# EAGLE library part PIC24FJ128GA202 (library JK-microcontrollers)
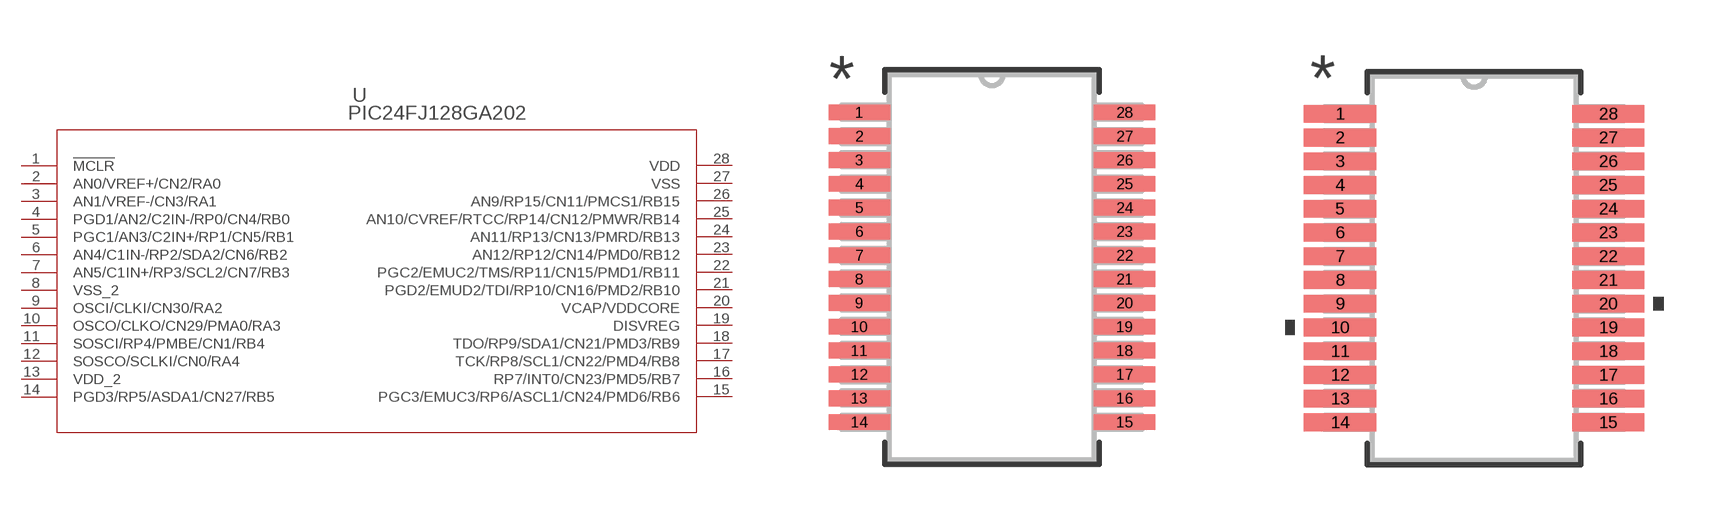
[diagram p1: symbol with the pads of SSOP28_MC; footprints SSOP28_MC, SSOP28_MC-M]

Designator prefix -

## PIC24FJ128GA202 (GENERATOR: Jake Kapala; MANUFACTURER: Microchip; PACKAGE: SSOP; PINS: 28)  [SSOP28_MC]
1  !MCLR  pas
2  AN0/VREF+/CN2/RA0  pas
3  AN1/VREF-/CN3/RA1  pas
4  PGD1/AN2/C2IN-/RP0/CN4/RB0  pas
5  PGC1/AN3/C2IN+/RP1/CN5/RB1  pas
6  AN4/C1IN-/RP2/SDA2/CN6/RB2  pas
7  AN5/C1IN+/RP3/SCL2/CN7/RB3  pas
8  VSS_2  pas
9  OSCI/CLKI/CN30/RA2  pas
10  OSCO/CLKO/CN29/PMA0/RA3  pas
11  SOSCI/RP4/PMBE/CN1/RB4  pas
12  SOSCO/SCLKI/CN0/RA4  pas
13  VDD_2  pas
14  PGD3/RP5/ASDA1/CN27/RB5  pas
15  PGC3/EMUC3/RP6/ASCL1/CN24/PMD6/RB6  pas
16  RP7/INT0/CN23/PMD5/RB7  pas
17  TCK/RP8/SCL1/CN22/PMD4/RB8  pas
18  TDO/RP9/SDA1/CN21/PMD3/RB9  pas
19  DISVREG  pas
20  VCAP/VDDCORE  pas
21  PGD2/EMUD2/TDI/RP10/CN16/PMD2/RB10  pas
22  PGC2/EMUC2/TMS/RP11/CN15/PMD1/RB11  pas
23  AN12/RP12/CN14/PMD0/RB12  pas
24  AN11/RP13/CN13/PMRD/RB13  pas
25  AN10/CVREF/RTCC/RP14/CN12/PMWR/RB14  pas
26  AN9/RP15/CN11/PMCS1/RB15  pas
27  VSS  pas
28  VDD  pas

## PIC24FJ128GA202SSOP28_MC-M  [SSOP28_MC-M]
Pads as for SSOP28_MC

## PIC24FJ128GA202SSOP28_MC-L  [SSOP28_MC-L]
Pads as for SSOP28_MC

## PIC24FJ128GA202QFN-S (GENERATOR: Jake Kapala; MANUFACTURER: Microchip; PACKAGE: QFN-S; PINS: 28)  [QFN-S28_6X6MC]
1  PGD1/AN2/C2IN-/RP0/CN4/RB0  pas
2  PGC1/AN3/C2IN+/RP1/CN5/RB1  pas
3  AN4/C1IN-/RP2/SDA2/CN6/RB2  pas
4  AN5/C1IN+/RP3/SCL2/CN7/RB3  pas
5  VSS  pas
6  OSCI/CLKI/CN30/RA2  pas
7  OSCO/CLKO/CN29/PMA0/RA3  pas
8  SOSCI/RP4/PMBE/CN1/RB4  pas
9  SOSCO/SCLKI/CN0/RA4  pas
10  VDD  pas
11  PGD3/RP5/ASDA1/CN27/RB5  pas
12  PGC3/EMUC3/RP6/ASCL1/CN24/PMD6/RB6  pas
13  RP7/INT0/CN23/PMD5/RB7  pas
14  TCK/RP8/SCL1/CN22/PMD4/RB8  pas
15  TDO/RP9/SDA1/CN21/PMD3/RB9  pas
16  DISVREG  pas
17  VCAP/VDDCORE  pas
18  PGD2/EMUD2/TDI/RP10/CN16/PMD2/RB10  pas
19  PGC2/EMUC2/TMS/RP11/CN15/PMD1/RB11  pas
20  AN12/RP12/CN14/PMD0/RB12  pas
21  AN11/RP13/CN13/PMRD/RB13  pas
22  AN10/CVREF/RTCC/RP14/CN12/PMWR/RB14  pas
23  AN9/RP15/CN11/PMCS1/RB15  pas
24  VSS_2  pas
25  VDD_2  pas
26  !MCLR  pas
27  AN0/VREF+/CN2/RA0  pas
28  AN1/VREF-/CN3/RA1  pas
HTAB  VSS_2  pas

## Footprint SSOP28_MC (pad centres in mm)
smd 1.676 x 0.432: 1 -3.617,4.225; 2 -3.617,3.575; 3 -3.617,2.925; 4 -3.617,2.275; 5 -3.617,1.625; 6 -3.617,0.975; 7 -3.617,0.325; 8 -3.617,-0.325; 9 -3.617,-0.975; 10 -3.617,-1.625; 11 -3.617,-2.275; 12 -3.617,-2.925; 13 -3.617,-3.575; 14 -3.617,-4.225; 15 3.617,-4.225; 16 3.617,-3.575; 17 3.617,-2.925; 18 3.617,-2.275; 19 3.617,-1.625; 20 3.617,-0.975; 21 3.617,-0.325; 22 3.617,0.325; 23 3.617,0.975; 24 3.617,1.625; 25 3.617,2.275; 26 3.617,2.925; 27 3.617,3.575; 28 3.617,4.225

## Footprint SSOP28_MC-M (pad centres in mm)
smd 1.981 x 0.483: 1 -3.668,4.225; 2 -3.668,3.575; 3 -3.668,2.925; 4 -3.668,2.275; 5 -3.668,1.625; 6 -3.668,0.975; 7 -3.668,0.325; 8 -3.668,-0.325; 9 -3.668,-0.975; 10 -3.668,-1.625; 11 -3.668,-2.275; 12 -3.668,-2.925; 13 -3.668,-3.575; 14 -3.668,-4.225; 15 3.668,-4.225; 16 3.668,-3.575; 17 3.668,-2.925; 18 3.668,-2.275; 19 3.668,-1.625; 20 3.668,-0.975; 21 3.668,-0.325; 22 3.668,0.325; 23 3.668,0.975; 24 3.668,1.625; 25 3.668,2.275; 26 3.668,2.925; 27 3.668,3.575; 28 3.668,4.225

## Footprint SSOP28_MC-L (pad centres in mm)
smd 1.372 x 0.381: 1 -3.567,4.225; 2 -3.567,3.575; 3 -3.567,2.925; 4 -3.567,2.275; 5 -3.567,1.625; 6 -3.567,0.975; 7 -3.567,0.325; 8 -3.567,-0.325; 9 -3.567,-0.975; 10 -3.567,-1.625; 11 -3.567,-2.275; 12 -3.567,-2.925; 13 -3.567,-3.575; 14 -3.567,-4.225; 15 3.567,-4.225; 16 3.567,-3.575; 17 3.567,-2.925; 18 3.567,-2.275; 19 3.567,-1.625; 20 3.567,-0.975; 21 3.567,-0.325; 22 3.567,0.325; 23 3.567,0.975; 24 3.567,1.625; 25 3.567,2.275; 26 3.567,2.925; 27 3.567,3.575; 28 3.567,4.225

## Footprint QFN-S28_6X6MC (pad centres in mm)
smd 0.813 x 0.381: 1 -2.898,1.95; 2 -2.898,1.3; 3 -2.898,0.65; 4 -2.898,0; 5 -2.898,-0.65; 6 -2.898,-1.3; 7 -2.898,-1.95; 15 2.898,-1.95; 16 2.898,-1.3; 17 2.898,-0.65; 18 2.898,0; 19 2.898,0.65; 20 2.898,1.3; 21 2.898,1.95
smd 0.381 x 0.813: 8 -1.95,-2.898; 9 -1.3,-2.898; 10 -0.65,-2.898; 11 0,-2.898; 12 0.65,-2.898; 13 1.3,-2.898; 14 1.95,-2.898; 22 1.95,2.898; 23 1.3,2.898; 24 0.65,2.898; 25 0,2.898; 26 -0.65,2.898; 27 -1.3,2.898; 28 -1.95,2.898
smd 4.699 x 4.699: HTAB 0,0